# EAGLE library part XMEGA_BOARD (library 000_CustomPartsMaster)
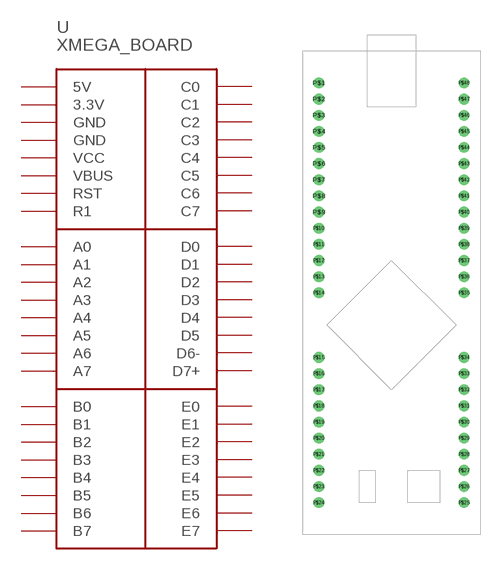
[diagram p14: symbol with the pads of XMEGA_BOARD; footprint XMEGA_BOARD]

Designator prefix -

## XMEGA_BOARD  [XMEGA_BOARD]
P$1  GND
P$2  5V
P$3  VCC
P$4  3.3V
P$5  C4
P$6  C5
P$7  C6
P$8  C7
P$9  D0
P$10  D1
P$11  D2
P$12  D3
P$13  D4
P$14  D5
P$15  E0
P$16  E1
P$17  E2
P$18  E3
P$19  E4
P$20  E5
P$21  E6
P$22  E7
P$23  R1
P$24  RST
P$25  A0
P$26  A1
P$27  A2
P$28  A3
P$29  A4
P$30  A5
P$31  A6
P$32  A7
P$33  B0
P$34  B1
P$35  B2
P$36  B3
P$37  B4
P$38  B5
P$39  B6
P$40  B7
P$41  C0
P$42  C1
P$43  C2
P$44  C3
P$45  VBUS
P$46  D6-
P$47  D7+
P$48  GND

## Footprint XMEGA_BOARD (pad centres in mm)
drill 1 pad 1.676: P$1 -11.43,38.1; P$2 -11.43,35.56; P$3 -11.43,33.02; P$4 -11.43,30.48; P$5 -11.43,27.94; P$6 -11.43,25.4; P$7 -11.43,22.86; P$8 -11.43,20.32; P$9 -11.43,17.78; P$10 -11.43,15.24; P$11 -11.43,12.7; P$12 -11.43,10.16; P$13 -11.43,7.62; P$14 -11.43,5.08; P$15 -11.43,-5.08; P$16 -11.43,-7.62; P$17 -11.43,-10.16; P$18 -11.43,-12.7; P$19 -11.43,-15.24; P$20 -11.43,-17.78; P$21 -11.43,-20.32; P$22 -11.43,-22.86; P$23 -11.43,-25.4; P$24 -11.43,-27.94; P$25 11.43,-27.94; P$26 11.43,-25.4; P$27 11.43,-22.86; P$28 11.43,-20.32; P$29 11.43,-17.78; P$30 11.43,-15.24; P$31 11.43,-12.7; P$32 11.43,-10.16; P$33 11.43,-7.62; P$34 11.43,-5.08; P$35 11.43,5.08; P$36 11.43,7.62; P$37 11.43,10.16; P$38 11.43,12.7; P$39 11.43,15.24; P$40 11.43,17.78; P$41 11.43,20.32; P$42 11.43,22.86; P$43 11.43,25.4; P$44 11.43,27.94; P$45 11.43,30.48; P$46 11.43,33.02; P$47 11.43,35.56; P$48 11.43,38.1